# Altium integrated library LM2596ADJ.IntLib: 1 symbol
Pins are listed as number, name and electrical type; pins without a type are passive.

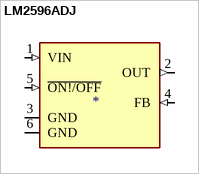
[diagram p0: symbol LM2596ADJ]

## LM2596ADJ
designator ?
MP: LM2596-ADJ; MF: First Components; SnapEDA_Link: https://www.snapeda.com/parts/LM2596-ADJ/First%20Components/view-part/557542/?ref=snap; Availability: Unavailable; Price: None; Value: *; Package: None
footprint LM2596ADJ
pins: 1 VIN (in), 2 OUT (out), 3 GND (power), 4 FB (in), 5 ~{ON!/OFF} (in), 6 GND (power)